# Altium schematic symbol library Schlib.SchLib: 57 symbols (part 2 of 2)
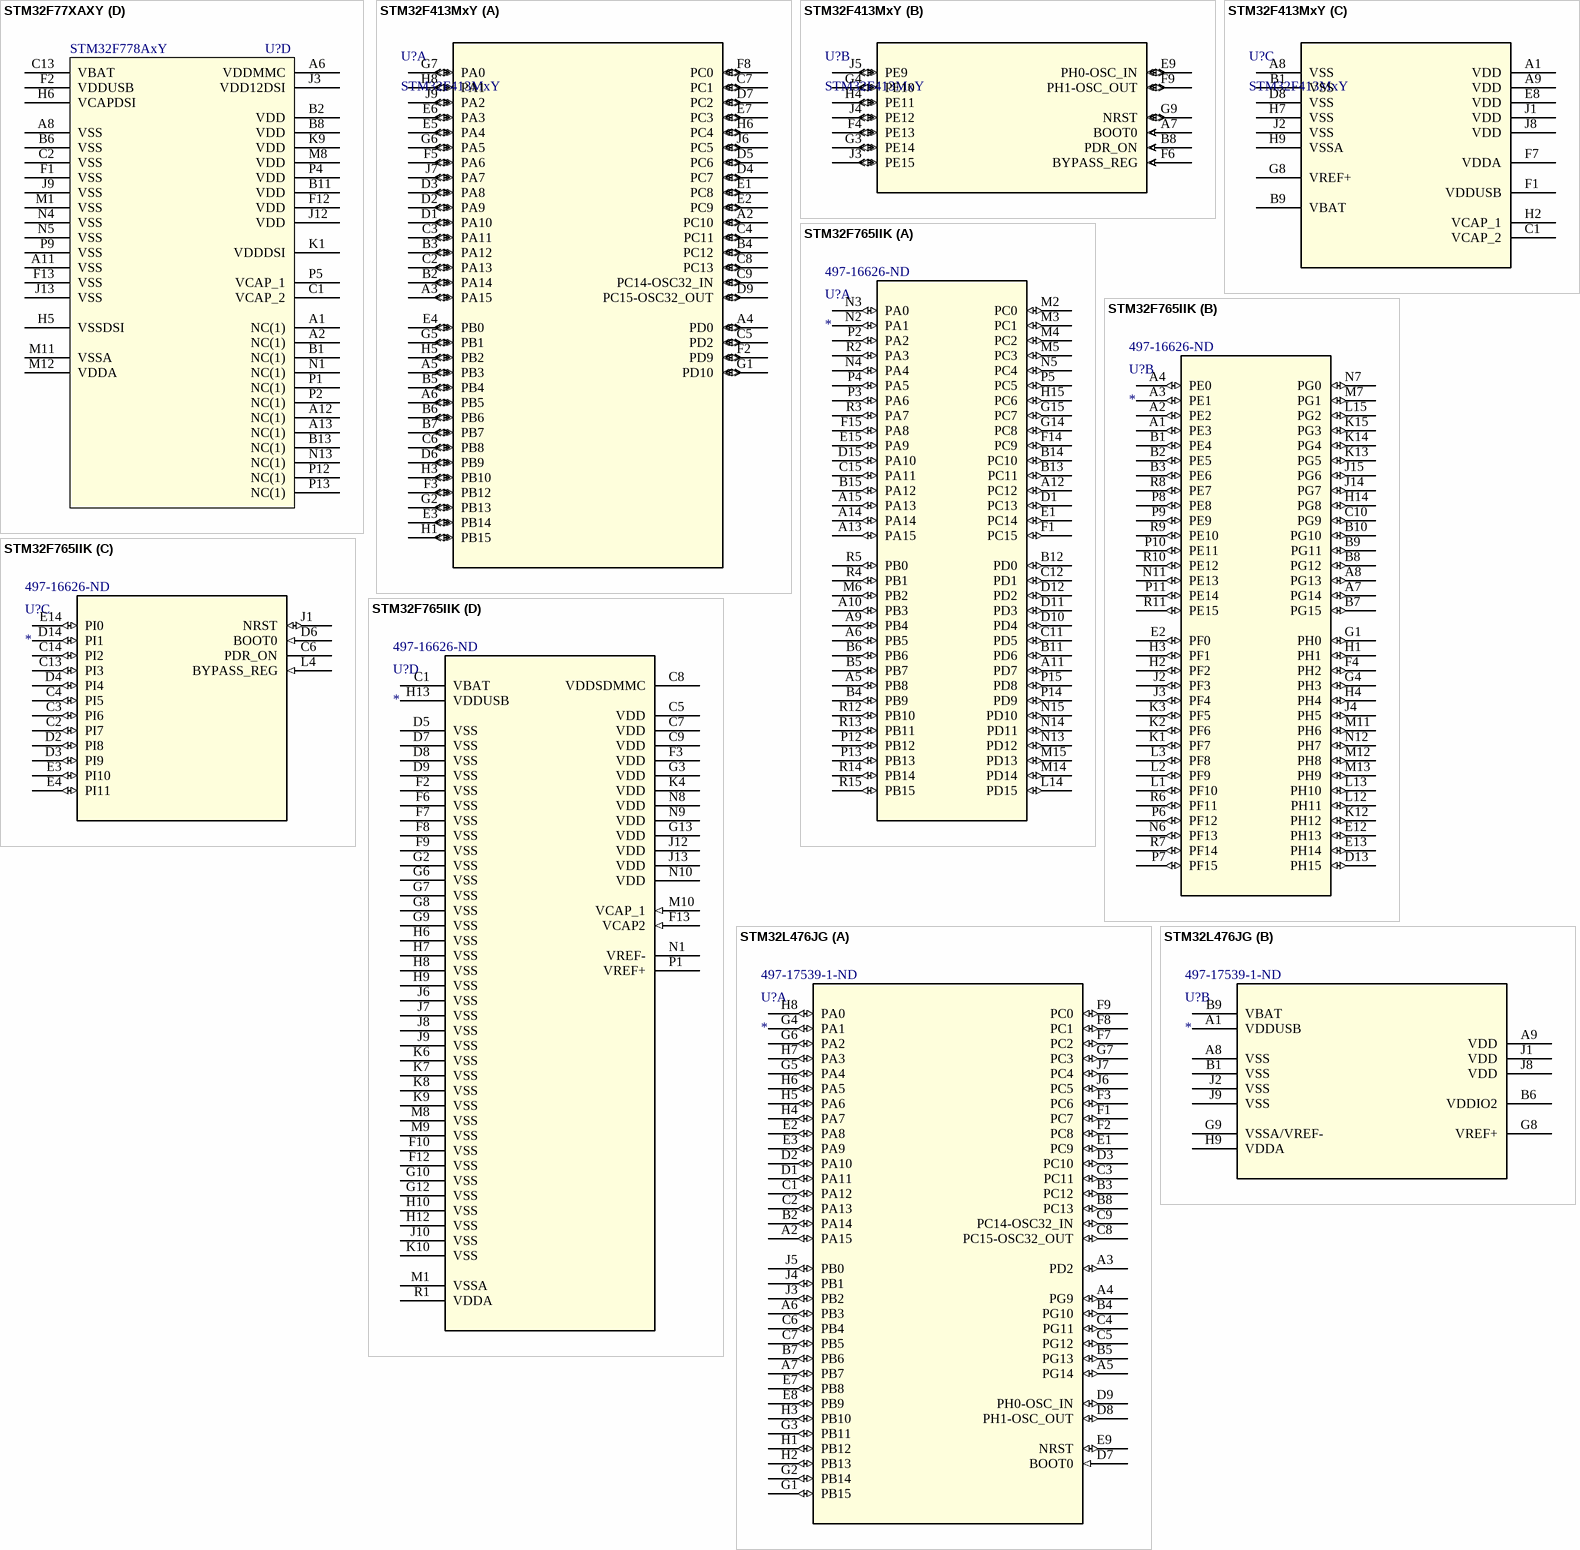
[diagram p4: symbols STM32F77XAXY to STM32L476JG]

## STM32L476JG
designator U?  Supplier Part Number 1: 497-17539-1-ND
IC MCU 32BIT 1MB FLASH 72WLCSP; Manufacturer: STMicroelectronics; Manufacturer Part Number: STM32L476JGY6TR; Core Processor: ARM® Cortex®-M4; Core Size: 32-Bit; Speed: 80MHz; Connectivity: CANbus, I²C, IrDA, LINbus, MMC/SD, QSPI, SAI, SPI, SWPMI, UART/USART, USB OTG; Peripherals: Brown-out Detect/Reset, DMA, LCD, PWM, WDT; Program Memory Size: 1MB (1M x 8); RAM Size: 128K x 8; Voltage - Supply (Vcc/Vdd): 1.71 V ~ 3.6 V; Data Converters: A/D 16x12b, D/A 2x12b; Oscillator Type: Internal; Supplier 1: Digi-Key; RoHS: RoHS Compliant; Category: Integrated Circuits (ICs); Stock 1: 1937; Pricing 1: 1=9.68, 10=8.747, 100=7.2419, 500=6.30618, 1000=5.49248 (USD); Packaging: Cut Tape (CT); Part Status: Active; Program Memory Type: FLASH; EEPROM Size: -; Operating Temperature: -40°C ~ 85°C (TA); Package / Case: 72-UFBGA, WLCSP; Supplier Device Package: 72-WLCSP (4.41x3.76); ComponentLink1URL: http://www.st.com/content/ccc/resource/technical/document/datasheet/c5/ed/2f/60/aa/79/42/0b/DM00108832.pdf/files/DM00108832.pdf/jcr:content/translations/en.DM00108832.pdf; ComponentLink1Description: http://www.st.com/content/ccc/resource/technical/document/datasheet/c5/ed/2f/60/aa/79/42/0b/DM00108832.pdf/files/DM00108832.pdf/jcr:content/translations/en.DM00108832.pdf
footprint WLCSP72
part A pins: A2 PA15 (io), A3 PD2 (io), A4 PG9 (io), A5 PG14 (io), A6 PB3 (io), A7 PB7 (io), B2 PA14 (io), B3 PC12 (io), B4 PG10 (io), B5 PG13 (io), B7 PB6 (io), B8 PC13 (io), C1 PA12 (io), C2 PA13 (io), C3 PC11 (io), C4 PG11 (io), C5 PG12 (io), C6 PB4 (io), C7 PB5 (io), C8 PC15-OSC32_OUT (io), C9 PC14-OSC32_IN (io), D1 PA11 (io), D2 PA10 (io), D3 PC10 (io), D7 BOOT0 (in), D8 PH1-OSC_OUT (io), D9 PH0-OSC_IN (io), E1 PC9 (io), E2 PA8 (io), E3 PA9 (io), E7 PB8 (io), E8 PB9 (io), E9 NRST (io), F1 PC7 (io), F2 PC8 (io), F3 PC6 (io), F7 PC2 (io), F8 PC1 (io), F9 PC0 (io), G1 PB15 (io), G2 PB14 (io), G3 PB11 (io), G4 PA1 (io), G5 PA4 (io), G6 PA2 (io), G7 PC3 (io), H1 PB12 (io), H2 PB13 (io), H3 PB10 (io), H4 PA7 (io), H5 PA6 (io), H6 PA5 (io), H7 PA3 (io), H8 PA0 (io), J3 PB2 (io), J4 PB1 (io), J5 PB0 (io), J6 PC5 (io), J7 PC4 (io)
part B pins: A1 VDDUSB (power), A8 VSS (power), A9 VDD (power), B1 VSS (power), B6 VDDIO2 (power), B9 VBAT (power), G8 VREF+ (power), G9 VSSA/VREF- (power), H9 VDDA (power), J1 VDD (power), J2 VSS (power), J8 VDD (power), J9 VSS (power)

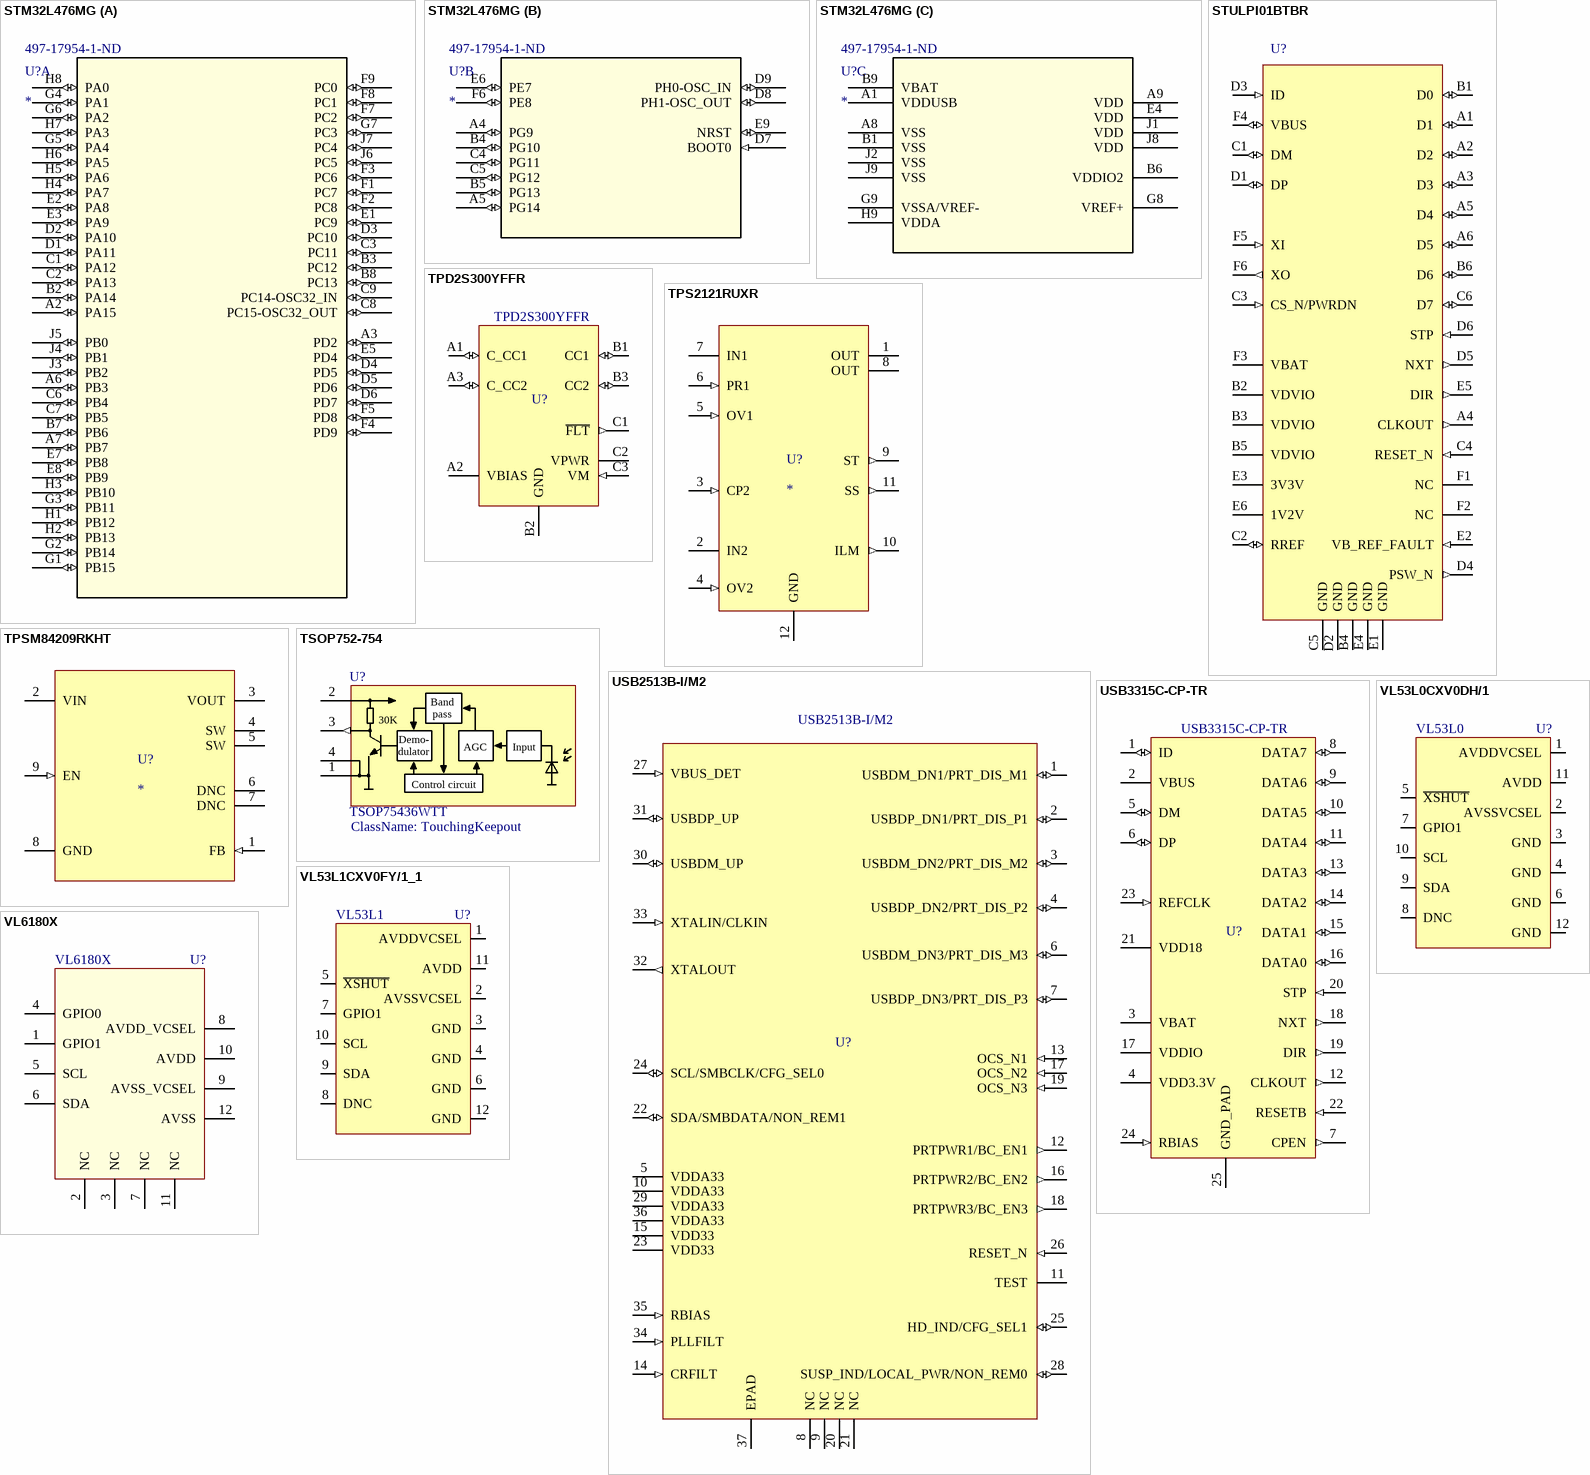
[diagram p3: symbols STM32L476MG to VL6180X]

## STM32L476MG
designator U?  Supplier Part Number 1: 497-17954-1-ND
STM32 32-BIT ARM CORTEX MCUS; Manufacturer_Part_Number: STM32L476MX; Manufacturer Part Number: STM32L476MGY6TR; Vendor: STMicroelectronics; Built_By: EMA_UL_Team; Core Processor: ARM® Cortex®-M4; Speed: 80MHz; Connectivity: CANbus, I²C, IrDA, LINbus, MMC/SD, QSPI, SAI, SPI, SWPMI, UART/USART, USB OTG; Peripherals: Brown-out Detect/Reset, DMA, LCD, PWM, WDT; Program Memory Size: 1MB (1M x 8); Program Memory Type: FLASH; RAM Size: 128K x 8; Voltage - Supply (Vcc/Vdd): 1.71 V ~ 3.6 V; Data Converters: A/D 16x12b, D/A 2x12b; Oscillator Type: Internal; RefDes: RefDes; Type: DEV; Value: Value; Supplier 1: Digi-Key; Manufacturer: STMicroelectronics; RoHS: Request Inventory Verification; Category: Integrated Circuits (ICs); Stock 1: 10; Pricing 1: 1=9.91, 10=8.953, 100=7.4124, 500=6.45464, 1000=5.62179 (USD); Packaging: Cut Tape (CT); Part Status: Active; Core Size: 32-Bit; EEPROM Size: -; Operating Temperature: -40°C ~ 85°C (TA); Package / Case: 81-UFBGA, WLCSP; ComponentLink1URL: http://www.st.com/content/ccc/resource/technical/document/datasheet/c5/ed/2f/60/aa/79/42/0b/DM00108832.pdf/files/DM00108832.pdf/jcr:content/translations/en.DM00108832.pdf; ComponentLink1Description: http://www.st.com/content/ccc/resource/technical/document/datasheet/c5/ed/2f/60/aa/79/42/0b/DM00108832.pdf/files/DM00108832.pdf/jcr:content/translations/en.DM00108832.pdf
footprint WLCSP81
part A pins: A2 PA15 (io), A3 PD2 (io), A6 PB3 (io), A7 PB7 (io), B2 PA14 (io), B3 PC12 (io), B7 PB6 (io), B8 PC13 (io), C1 PA12 (io), C2 PA13 (io), C3 PC11 (io), C6 PB4 (io), C7 PB5 (io), C8 PC15-OSC32_OUT (io), C9 PC14-OSC32_IN (io), D1 PA11 (io), D2 PA10 (io), D3 PC10 (io), D4 PD5 (io), D5 PD6 (io), D6 PD7 (io), E1 PC9 (io), E2 PA8 (io), E3 PA9 (io), E5 PD4 (io), E7 PB8 (io), E8 PB9 (io), F1 PC7 (io), F2 PC8 (io), F3 PC6 (io), F4 PD9 (io), F5 PD8 (io), F7 PC2 (io), F8 PC1 (io), F9 PC0 (io), G1 PB15 (io), G2 PB14 (io), G3 PB11 (io), G4 PA1 (io), G5 PA4 (io), G6 PA2 (io), G7 PC3 (io), H1 PB12 (io), H2 PB13 (io), H3 PB10 (io), H4 PA7 (io), H5 PA6 (io), H6 PA5 (io), H7 PA3 (io), H8 PA0 (io), J3 PB2 (io), J4 PB1 (io), J5 PB0 (io), J6 PC5 (io), J7 PC4 (io)
part B pins: A4 PG9 (io), A5 PG14 (io), B4 PG10 (io), B5 PG13 (io), C4 PG11 (io), C5 PG12 (io), D7 BOOT0 (in), D8 PH1-OSC_OUT (io), D9 PH0-OSC_IN (io), E6 PE7 (io), E9 NRST (io), F6 PE8 (io)
part C pins: A1 VDDUSB (power), A8 VSS (power), A9 VDD (power), B1 VSS (power), B6 VDDIO2 (power), B9 VBAT (power), E4 VDD (power), G8 VREF+ (power), G9 VSSA/VREF- (power), H9 VDDA (power), J1 VDD (power), J2 VSS (power), J8 VDD (power), J9 VSS (power)

## STULPI01BTBR
designator U?  Manufacturer Part Number: STULPI01BTBR  (hidden comment: *)
IC ULPI TX USB ON-THE-GO 36TFBGA; Manufacturer: STMicroelectronics; Data Rate: 480Mbps; Number of Transceivers: 1; Supplier 1: Digi-Key; Stock 1: 3016; Pricing 1: 1=3.79, 10=3.407, 100=2.7918, 500=2.37662, 1000=2.00438 (USD); Mount: Surface Mount; Case/Package: TFBGA; Number of Pins: 36; Min Operating Temperature: -40°C; Max Operating Temperature: 85°C; Packaging: Tape and Reel; Package Quantity: 3000; Radiation Hardening: No; Lead Free: Lead Free; ComponentLink1URL: http://www.st.com/content/ccc/resource/technical/document/datasheet/2e/81/a4/b4/3f/4e/44/18/CD00201527.pdf/files/CD00201527.pdf/jcr:content/translations/en.CD00201527.pdf; ComponentLink1Description: http://www.st.com/content/ccc/resource/technical/document/datasheet/2e/81/a4/b4/3f/4e/44/18/CD00201527.pdf/files/CD00201527.pdf/jcr:content/translations/en.CD00201527.pdf; ComponentLink2URL: http://www.produktinfo.conrad.com/datenblaetter/1100000-1199999/001184650-da-01-en-IC_ULPI_TX_USB_STULPI01BTBR_TFBGA_36_STM.pdf; ComponentLink2Description: http://www.produktinfo.conrad.com/datenblaetter/1100000-1199999/001184650-da-01-en-IC_ULPI_TX_USB_STULPI01BTBR_TFBGA_36_STM.pdf; Supplier Part Number 1: 497-11987-6-ND
footprint uTFBGA36
pins: A1 D1 (io), A2 D2 (io), A3 D3 (io), A4 CLKOUT (out), A5 D4 (io), A6 D5 (io), B1 D0 (io), B2 VDVIO (power), B3 VDVIO (power), B4 GND (power), B5 VDVIO (power), B6 D6 (io), C1 DM (io), C2 RREF (io), C3 CS_N/PWRDN (in), C4 RESET_N (in), C5 GND (power), C6 D7 (io), D1 DP (io), D2 GND (power), D3 ID (in), D4 PSW_N (out), D5 NXT (out), D6 STP (in), E1 GND (power), E2 VB_REF_FAULT (in), E3 3V3V (power), E4 GND (power), E5 DIR (out), E6 1V2V (power), F1 NC, F2 NC, F3 VBAT (power), F4 VBUS (io), F5 XI (in), F6 XO (out)

## TPD2S300YFFR
designator U?  Manufacturer Part Number: TPD2S300YFFR  (hidden comment: *)
IC OVERVOLTAGE PROT CTRL 9DSBGA; Manufacturer: Texas Instruments; Interface: USB; Supplier 1: Digi-Key; Stock 1: 1190; Pricing 1: 1=1.22, 10=1.094, 100=0.8532, 500=0.70482, 1000=0.55643 (USD); Min Operating Temperature: -40°C; Max Operating Temperature: 85°C; Supplier Part Number 1: 296-50034-1-ND
footprint WLCSP9 - ti
pins: A1 C_CC1 (io), A2 VBIAS (power), A3 C_CC2 (io), B1 CC1 (io), B2 GND (power), B3 CC2 (io), C1 ~{FLT} (out), C2 VPWR (power), C3 VM (in)

## TPS2121RUXR
designator U?
Power Mux Dual Input One Output; Manufacturer: Texas Instruments; PartNumber: TPS2121RUXR; RefDes: RefDes; Type: DEV; Value: Value
footprint VQFN-HR (RUX) 12
pins: 1 OUT (power), 2 IN2 (power), 3 CP2 (in), 4 OV2 (in), 5 OV1 (in), 6 PR1 (in), 7 IN1 (power), 8 OUT (power), 9 ST (out), 10 ILM (out), 11 SS (out), 12 GND (power)

## TPSM84209RKHT
designator U?
DC DC CONVERTER 1.2-6V 15W; Manufacturer: Texas Instruments; Manufacturer Part Number: TPSM84209RKHT; Voltage - Input (Min): 4.5V; Voltage - Input (Max): 28V; Voltage - Output 1: 1.2 ~ 6 V; Current - Output (Max): 2.5A; Efficiency: 86.5%; Supplier 1: Digi-Key; RoHS: Request Inventory Verification; Category: Power Supplies - Board Mount; Stock 1: 47; Pricing 1: 1=5.04, 10=4.53, 100=3.7117 (USD); Packaging: Cut Tape (CT); Part Status: Active; Type: Non-Isolated PoL Module; Voltage - Output 2: -; Voltage - Output 3: -; Voltage - Output 4: -; Applications: ITE (Commercial); Features: OCP, OTP, UVLO; Operating Temperature: -40°C ~ 85°C (With Derating); Mounting Type: Surface Mount; Package / Case: 9-PowerQFN; Size / Dimension: 0.18" L x 0.16" W x 0.08" H (4.5mm x 4.0mm x 2.1mm); Supplier Device Package: 9-QFN-FCMOD (4.5x4); ComponentLink1URL: http://www.ti.com/lit/ds/symlink/tpsm84209.pdf; ComponentLink1Description: http://www.ti.com/lit/ds/symlink/tpsm84209.pdf
footprint QFN-FCMOD (RKH) 9
pins: 1 FB (in), 2 VIN (power), 3 VOUT (power), 4 SW (power), 5 SW (power), 6 DNC, 7 DNC, 8 GND (power), 9 EN (in)

## TSOP752-754
designator U?, comment TSOP75436WTT  ClassName: TouchingKeepout
Vishay 	TSOP75436WTT IR Receiver Modules for Remote Control Systems; Preference: 1; Quant_2: 50; Quant_3: 200; Currentie: CHF; Size: TSOP752-754; Footprint Acort: ToDefine; ComponentLink1URL: http://www.vishay.com/docs/82496/tsop752w.pdf; ComponentLink1Description: Datasheet; Supplier: Farnell; Supplier Nr: 2251419; ComponentLink2Description: Farnell link; ComponentLink2URL: http://ch.farnell.com/fr-CH/vishay/tsop75436wtt/recepteur-ir-heimdall-agc4-36khz/dp/2251419; Manufacturer: Vishay; Manufacturer Nr: TSOP75436WTT; Quant_1: 1; Price_1: 1.144; Price_2: 1.056; Price_3: 0.924; ROHS: True; DateLastUpdate: 2014-11-27 / 08:18:45
footprint VISHAY-TSOP752-754
pins: 1 GND (power), 2 VS (power), 3 OUT (out), 4 GND (power)
text: 30K; Band / pass; AGC; Input; Demo- / dulator; Control circuit

## USB2513B-I/M2
designator U?  Manufacturer Part Number: USB2513B-I/M2  (hidden comment: *)
IC USB HUB CONTROLLER, USB 2.0, SQFN-36; Manufacturer: MICROCHIP; USB Standard: USB 2.0; Supply Voltage Min: 3; Supply Voltage Max: 3.6; Interface Case Style: SQFN; No. of Pins: 36; Data Rate: 480; No. of Ports: 3 Port; SVHC: No SVHC (17-Dec-2015); Supplier 1: Farnell; RoHS: YES; Stock 1: 431; Pricing 1: 1=2.44, 10=2.03, 25=1.92, 50=1.83, 100=1.74 (GBP); USB Type: USB Hub Controller; Operating Temperature Min: -40; Operating Temperature Max: 85; Packaging: Each; Product Range: -; MSL: MSL 1 - Unlimited; ComponentLink1URL: http://www.farnell.com/datasheets/2032129.pdf; ComponentLink1Description: http://www.farnell.com/datasheets/2032129.pdf; ComponentLink2URL: http://www.farnell.com/datasheets/2158507.pdf; ComponentLink2Description: http://www.farnell.com/datasheets/2158507.pdf; Supplier Part Number 1: 2534608
footprint SQFN6x6-36
pins: 1 USBDM_DN1/PRT_DIS_M1 (io), 2 USBDP_DN1/PRT_DIS_P1 (io), 3 USBDM_DN2/PRT_DIS_M2 (io), 4 USBDP_DN2/PRT_DIS_P2 (io), 5 VDDA33 (power), 6 USBDM_DN3/PRT_DIS_M3 (io), 7 USBDP_DN3/PRT_DIS_P3 (io), 8 NC, 9 NC, 10 VDDA33 (power), 11 TEST, 12 PRTPWR1/BC_EN1 (out), 13 OCS_N1 (in), 14 CRFILT (in), 15 VDD33 (power), 16 PRTPWR2/BC_EN2 (out), 17 OCS_N2 (in), 18 PRTPWR3/BC_EN3 (out), 19 OCS_N3 (in), 20 NC, 21 NC, 22 SDA/SMBDATA/NON_REM1 (io), 23 VDD33 (power), 24 SCL/SMBCLK/CFG_SEL0 (io), 25 HD_IND/CFG_SEL1 (io), 26 RESET_N (in), 27 VBUS_DET (in), 28 SUSP_IND/LOCAL_PWR/NON_REM0 (io), 29 VDDA33 (power), 30 USBDM_UP (io), 31 USBDP_UP (io), 32 XTALOUT (out), 33 XTALIN/CLKIN (in), 34 PLLFILT (in), 35 RBIAS (in), 36 VDDA33 (power), 37 EPAD (power)

## USB3315C-CP-TR
designator U?  Manufacturer Part Number: USB3315C-CP-TR  (hidden comment: *)
IC TXRX USB FLEXPWR 24QFN; Manufacturer: Microchip Technology; Protocol: USB 2.0; Number of Drivers/Receivers: 1/1; Voltage - Supply: 1.8 V ~ 3.3 V; RoHS: RoHS Compliant; Category: Integrated Circuits (ICs); Stock 1: 11568; Pricing 1: 1=1.28, 25=1.0712, 100=0.9682 (USD); Packaging: Cut Tape (CT); Part Status: Active; Type: Transceiver; Duplex: -; Data Rate: -; Operating Temperature: -40°C ~ 85°C; Mounting Type: Surface Mount; Package / Case: 24-VFQFN Exposed Pad; Supplier Device Package: 24-QFN (4x4); ComponentLink1URL: http://www.microchip.com/mymicrochip/filehandler.aspx?ddocname=en562026; ComponentLink1Description: http://www.microchip.com/mymicrochip/filehandler.aspx?ddocname=en562026; Supplier 1: Mouser; Supplier Part Number 1: 886-USB3315C-CP-TR
footprint QFN4X4-16 (Quad Flat No Lead, Plastic; 16 Terminals; Body 4 x 4 mm; Pitch 0.65 mm)
pins: 1 ID (io), 2 VBUS (power), 3 VBAT (power), 4 VDD3.3V (power), 5 DM (io), 6 DP (io), 7 CPEN (out), 8 DATA7 (io), 9 DATA6 (io), 10 DATA5 (io), 11 DATA4 (io), 12 CLKOUT (out), 13 DATA3 (io), 14 DATA2 (io), 15 DATA1 (io), 16 DATA0 (io), 17 VDDIO (power), 18 NXT (out), 19 DIR (out), 20 STP (in), 21 VDD18 (power), 22 RESETB (in), 23 REFCLK (in), 24 RBIAS (in), 25 GND_PAD (power)

## VL53L0CXV0DH/1
designator U?, comment VL53L0
Time-of-Flight sensor, up to 200 cm distance, OPTICAL LGA12 4.4 x 2.4 x 1.0 mm, 940 nm laser (Class 1); Manufacturer: STMicroelectronics; Manufacturer Part Number: VL53L1CXV0FY/1; Sensing Distance: 157.480" (4m); Output Type: I²C; Voltage - Supply: 2.6 V ~ 3.5 V; Supplier 1: Digi-Key; RoHS: Request Inventory Verification; Category: Sensors, Transducers; Stock 1: 12283; Pricing 1: 1=6.62, 10=5.979, 100=4.9502 (USD); Part Status: Active; Voltage - Output Difference (Typ) @ Distance: -; Voltage - Output (Typ) @ Distance: -; Operating Temperature: -20°C ~ 85°C (TA); Base Part Number: VL53L1X; ComponentLink1URL: http://www.st.com/content/ccc/resource/technical/document/datasheet/group3/7d/85/c8/95/fb/3b/4e/2d/DM00452094/files/DM00452094.pdf/jcr:content/translations/en.DM00452094.pdf; ComponentLink1Description: http://www.st.com/content/ccc/resource/technical/document/datasheet/group3/7d/85/c8/95/fb/3b/4e/2d/DM00452094/files/DM00452094.pdf/jcr:content/translations/en.DM00452094.pdf; Supplier Part Number 1: 497-17764-1-ND
footprint VL53L0x
pins: 1 AVDDVCSEL (power), 2 AVSSVCSEL (power), 3 GND (power), 4 GND (power), 5 ~{XSHUT}, 6 GND (power), 7 GPIO1, 8 DNC, 9 SDA, 10 SCL, 11 AVDD (power), 12 GND (power)

## VL53L1CXV0FY/1_1
designator U?, comment VL53L1
Time-of-Flight sensor, 4 - 400 cm distance, OPTICAL LGA12 4.9 x 2.5 x 1.56 mm, 940 nm laser (Class 1); Manufacturer: STMicroelectronics; Manufacturer Part Number: VL53L1CXV0FY/1; Sensing Distance: 157.480" (4m); Output Type: I²C; Voltage - Supply: 2.6 V ~ 3.5 V; Supplier 1: Digi-Key; RoHS: Request Inventory Verification; Category: Sensors, Transducers; Stock 1: 12283; Pricing 1: 1=6.62, 10=5.979, 100=4.9502 (USD); Part Status: Active; Voltage - Output Difference (Typ) @ Distance: -; Voltage - Output (Typ) @ Distance: -; Operating Temperature: -20°C ~ 85°C (TA); Base Part Number: VL53L1X; ComponentLink1URL: http://www.st.com/content/ccc/resource/technical/document/datasheet/group3/7d/85/c8/95/fb/3b/4e/2d/DM00452094/files/DM00452094.pdf/jcr:content/translations/en.DM00452094.pdf; ComponentLink1Description: http://www.st.com/content/ccc/resource/technical/document/datasheet/group3/7d/85/c8/95/fb/3b/4e/2d/DM00452094/files/DM00452094.pdf/jcr:content/translations/en.DM00452094.pdf; Supplier Part Number 1: 497-17764-1-ND
footprint VL53L1x
pins: 1 AVDDVCSEL (power), 2 AVSSVCSEL (power), 3 GND (power), 4 GND (power), 5 ~{XSHUT}, 6 GND (power), 7 GPIO1, 8 DNC, 9 SDA, 10 SCL, 11 AVDD (power), 12 GND (power)

## VL6180X
designator U?
Manufacturer: STMicroelectronics; Manufacturer Part Number: VL6180XV0NR/1; With Proximity Sensor: Yes; Output Type: I²C; Voltage - Supply: 2.6 V ~ 3 V; Supplier 1: Digi-Key; Supplier Part Number 1: 497-14702-1-ND; RoHS: RoHS Compliant; Category: Sensors, Transducers; Stock 1: 6326; Pricing 1: 1=6.45, 10=5.8, 25=5.2752, 100=4.775, 250=4.375, 500=4, 1000=3.475, 2500=3.35 (USD); Packaging: Cut Tape (CT); Type: Ambient; Wavelength: -; Operating Temperature: -10°C ~ 60°C; Mounting Type: Surface Mount; Package / Case: 12-SMD Module; Supplier Device Package: 12-SMD; ComponentLink1URL: http://www.st.com/st-web-ui/static/active/en/resource/technical/document/datasheet/DM00112632.pdf; ComponentLink1Description: http://www.st.com/st-web-ui/static/active/en/resource/technical/document/datasheet/DM00112632.pdf
footprint VL6180X
pins: 1 GPIO1, 2 NC, 3 NC, 4 GPIO0, 5 SCL, 6 SDA, 7 NC, 8 AVDD_VCSEL, 9 AVSS_VCSEL, 10 AVDD, 11 NC, 12 AVSS